# Altium footprint library XAL1010.PcbLib: 1 footprints
Each footprint in its own frame and in the unit in brackets; x right, y up, seen from the top. Pads: shape width x height; smd on the part's side, far side on the other; paste and mask are expansions set on the pad; w line width, h text height; cw(c..) or ccw(c..) is an arc to the next point about the centre after c.
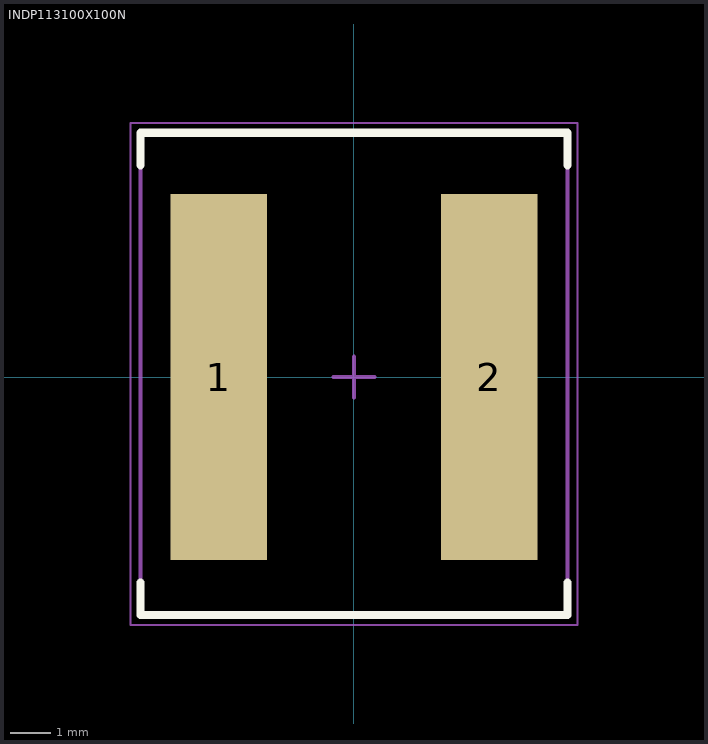
[diagram p0: the footprint, top view; thin cyan lines are the x and y axes]

## INDP113100X100N [mm] "Precision Wire Wound Inductor, 2-Leads, Body 11.30x10.00mm, IPC Medium Density"
height 10
pads (2):
  rect 2.38x9 smd: 1(-3.325,0) 2(3.325,0)
Top Overlay:
  lines w0.2: -5.25,-5.05 -5.25,-5.85 5.25,-5.85 5.25,-5.05 ; -5.25,5.208 -5.25,6.008 5.25,6.008 5.25,5.208
Mechanical 13:
  lines w0.1: -5.25,-5.842 -5.25,5.958 5.25,5.958 5.25,-5.842 -5.25,-5.842
Mechanical 15:
  lines w0.05: -5.5,-6.1 -5.5,6.25 5.5,6.25 5.5,-6.1 -5.5,-6.1
  lines w0.1: -0.5,0 0.5,0 ; 0,-0.5 0,0.5
3D body "Coilcraft-XAL1010.STEP": height 9.9, standoff -0.1, extent -5.25,-5.842 5.25,5.958